# Altium integrated library Connector Header Through Hole 2 position.IntLib: 1 symbol
Pins are listed as number, name and electrical type; pins without a type are passive.

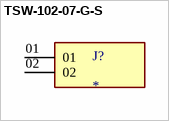
[diagram p0: symbol TSW-102-07-G-S]

## TSW-102-07-G-S
designator J?
MF: Samtec; MP: TSW-102-07-G-S; Package: None; Price: None; Value: *; Availability: Unavailable
footprint SAMTEC_TSW-102-07-G-S
pins: 01, 02